# Altium schematic symbol library CustomParts.SchLib: 5 symbols
Pins are listed as number, name and electrical type; pins without a type are passive.

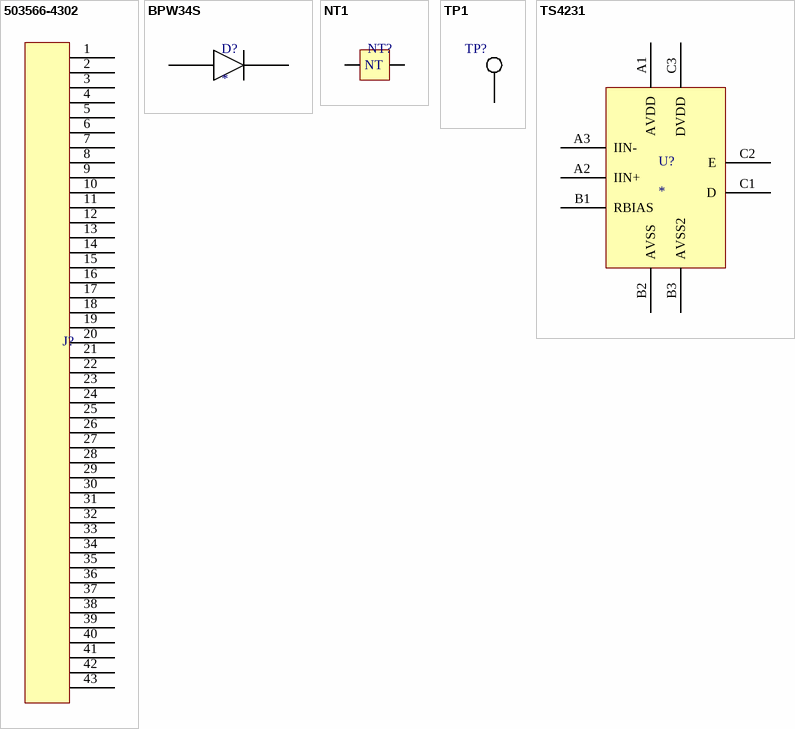
[diagram p0: symbols 503566-4302 to TS4231]

## 503566-4302
designator J?  (value not drawn)
FPC Connector, 43P, 0.3mm
pins: 1, 2, 3, 4, 5, 6, 7, 8, 9, 10, 11, 12, 13, 14, 15, 16, 17, 18, 19, 20, 21, 22, 23, 24, 25, 26, 27, 28, 29, 30, 31, 32, 33, 34, 35, 36, 37, 38, 39, 40, 41, 42, 43

## BPW34S
designator D?
Silicon PIN Photodiode
pins: A, K

## NT1
designator NT?  (value not drawn)  (net tie, no BOM)
Nettie
pins: 1, 2
text: NT

## TP1
designator TP?  (value not drawn)
Test Point
pins: 1

## TS4231
designator U?
Light to digital convertor for SteamVR 2.0 tracking.
pins: A1 AVDD, A2 IIN+, A3 IIN-, B1 RBIAS, B2 AVSS, B3 AVSS2, C1 D, C2 E, C3 DVDD